# EAGLE library part M32170_74(240PIN) (library MITSUBISHI)
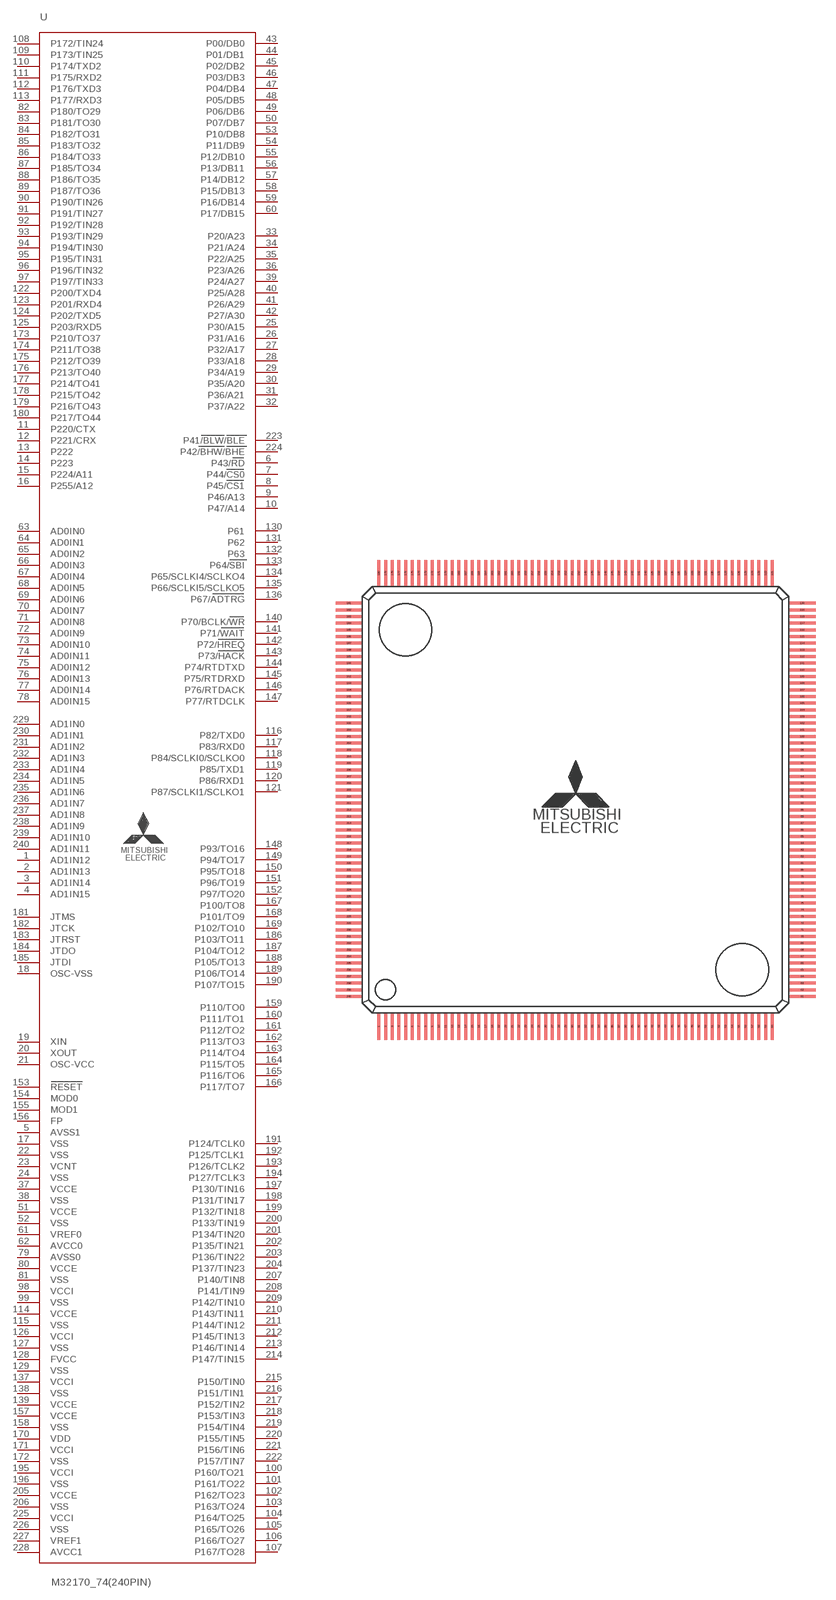
[diagram p38: symbol with the pads of 240P6Y-A; footprint 240P6Y-A]

Designator prefix -

## M32170_74(240PIN)  [240P6Y-A]
1  AD1IN12  in
2  AD1IN13  in
3  AD1IN14  in
4  AD1IN15  in
5  AVSS1  pwr
6  P43/RD
7  P44/CS0
8  P45/CS1
9  P46/A13
10  P47/A14
11  P220/CTX
12  P221/CRX  in
13  P222
14  P223
15  P224/A11
16  P255/A12
17  VSS  pwr
18  OSC-VSS  in
19  XIN  in
20  XOUT  out
21  OSC-VCC  in
22  VSS  pwr
23  VCNT  pwr
24  VSS  pwr
25  P30/A15
26  P31/A16
27  P32/A17
28  P33/A18
29  P34/A19
30  P35/A20
31  P36/A21
32  P37/A22
33  P20/A23
34  P21/A24
35  P22/A25
36  P23/A26
37  VCCE  pwr
38  VSS  pwr
39  P24/A27
40  P25/A28
41  P26/A29
42  P27/A30
43  P00/DB0
44  P01/DB1
45  P02/DB2
46  P03/DB3
47  P04/DB4
48  P05/DB5
49  P06/DB6
50  P07/DB7
51  VCCE  pwr
52  VSS  pwr
53  P10/DB8
54  P11/DB9
55  P12/DB10
56  P13/DB11
57  P14/DB12
58  P15/DB13
59  P16/DB14
60  P17/DB15
61  VREF0  pwr
62  AVCC0  pwr
63  AD0IN0  in
64  AD0IN1  in
65  AD0IN2  in
66  AD0IN3  in
67  AD0IN4  in
68  AD0IN5  in
69  AD0IN6  in
70  AD0IN7  in
71  AD0IN8  in
72  AD0IN9  in
73  AD0IN10  in
74  AD0IN11  in
75  AD0IN12  in
76  AD0IN13  in
77  AD0IN14  in
78  AD0IN15  in
79  AVSS0  pwr
80  VCCE  pwr
81  VSS  pwr
82  P180/TO29
83  P181/TO30
84  P182/TO31
85  P183/TO32
86  P184/TO33
87  P185/TO34
88  P186/TO35
89  P187/TO36
90  P190/TIN26
91  P191/TIN27
92  P192/TIN28
93  P193/TIN29
94  P194/TIN30
95  P195/TIN31
96  P196/TIN32
97  P197/TIN33
98  VCCI  pwr
99  VSS  pwr
100  P160/TO21  in
101  P161/TO22  in
102  P162/TO23  in
103  P163/TO24  in
104  P164/TO25  in
105  P165/TO26  in
106  P166/TO27  in
107  P167/TO28  in
108  P172/TIN24
109  P173/TIN25
110  P174/TXD2
111  P175/RXD2
112  P176/TXD3
113  P177/RXD3
114  VCCE  pwr
115  VSS  pwr
116  P82/TXD0  in
117  P83/RXD0  in
118  P84/SCLKI0/SCLKO0  in
119  P85/TXD1  in
120  P86/RXD1  in
121  P87/SCLKI1/SCLKO1  in
122  P200/TXD4
123  P201/RXD4
124  P202/TXD5
125  P203/RXD5
126  VCCI  pwr
127  VSS  pwr
128  FVCC  pwr
129  VSS  pwr
130  P61
131  P62
132  P63
133  P64/SBI  in
134  P65/SCLKI4/SCLKO4
135  P66/SCLKI5/SCLKO5
136  P67/ADTRG
137  VCCI  pwr
138  VSS  pwr
139  VCCE  pwr
140  P70/BCLK/WR  in
141  P71/WAIT  in
142  P72/HREQ  in
143  P73/HACK  in
144  P74/RTDTXD  in
145  P75/RTDRXD  in
146  P76/RTDACK  in
147  P77/RTDCLK  in
148  P93/TO16  in
149  P94/TO17  in
150  P95/TO18  in
151  P96/TO19  in
152  P97/TO20  in
153  RESET  in
154  MOD0  in
155  MOD1  in
156  FP  in
157  VCCE  pwr
158  VSS  pwr
159  P110/TO0  in
160  P111/TO1  in
161  P112/TO2  in
162  P113/TO3  in
163  P114/TO4  in
164  P115/TO5  in
165  P116/TO6  in
166  P117/TO7  in
167  P100/TO8  in
168  P101/TO9  in
169  P102/TO10  in
170  VDD  pwr
171  VCCI  pwr
172  VSS  pwr
173  P210/TO37
174  P211/TO38
175  P212/TO39
176  P213/TO40
177  P214/TO41
178  P215/TO42
179  P216/TO43
180  P217/TO44
181  JTMS  in
182  JTCK  in
183  JTRST  in
184  JTDO  out
185  JTDI  in
186  P103/TO11  in
187  P104/TO12  in
188  P105/TO13  in
189  P106/TO14  in
190  P107/TO15  in
191  P124/TCLK0  in
192  P125/TCLK1  in
193  P126/TCLK2  in
194  P127/TCLK3  in
195  VCCI  pwr
196  VSS  pwr
197  P130/TIN16  in
198  P131/TIN17  in
199  P132/TIN18  in
200  P133/TIN19  in
201  P134/TIN20  in
202  P135/TIN21  in
203  P136/TIN22  in
204  P137/TIN23  in
205  VCCE  pwr
206  VSS  pwr
207  P140/TIN8  in
208  P141/TIN9  in
209  P142/TIN10  in
210  P143/TIN11  in
211  P144/TIN12  in
212  P145/TIN13  in
213  P146/TIN14  in
214  P147/TIN15  in
215  P150/TIN0  in
216  P151/TIN1  in
217  P152/TIN2  in
218  P153/TIN3  in
219  P154/TIN4  in
220  P155/TIN5  in
221  P156/TIN6  in
222  P157/TIN7  in
223  P41/BLW/BLE
224  P42/BHW/BHE
225  VCCI  pwr
226  VSS  pwr
227  VREF1  pwr
228  AVCC1  pwr
229  AD1IN0  in
230  AD1IN1  in
231  AD1IN2  in
232  AD1IN3  in
233  AD1IN4  in
234  AD1IN5  in
235  AD1IN6  in
236  AD1IN7  in
237  AD1IN8  in
238  AD1IN9  in
239  AD1IN10  in
240  AD1IN11  in

## Footprint 240P6Y-A (pad centres in mm)
smd 0.225 x 2: 1 -14.75,-17; 2 -14.25,-17; 3 -13.75,-17; 4 -13.25,-17; 5 -12.75,-17; 6 -12.25,-17; 7 -11.75,-17; 8 -11.25,-17; 9 -10.75,-17; 10 -10.25,-17; 11 -9.75,-17; 12 -9.25,-17; 13 -8.75,-17; 14 -8.25,-17; 15 -7.75,-17; 16 -7.25,-17; 17 -6.75,-17; 18 -6.25,-17; 19 -5.75,-17; 20 -5.25,-17; 21 -4.75,-17; 22 -4.25,-17; 23 -3.75,-17; 24 -3.25,-17; 25 -2.75,-17; 26 -2.25,-17; 27 -1.75,-17; 28 -1.25,-17; 29 -0.75,-17; 30 -0.25,-17; 31 0.25,-17; 32 0.75,-17; 33 1.25,-17; 34 1.75,-17; 35 2.25,-17; 36 2.75,-17; 37 3.25,-17; 38 3.75,-17; 39 4.25,-17; 40 4.75,-17; 41 5.25,-17; 42 5.75,-17; 43 6.25,-17; 44 6.75,-17; 45 7.25,-17; 46 7.75,-17; 47 8.25,-17; 48 8.75,-17; 49 9.25,-17; 50 9.75,-17; 51 10.25,-17; 52 10.75,-17; 53 11.25,-17; 54 11.75,-17; 55 12.25,-17; 56 12.75,-17; 57 13.25,-17; 58 13.75,-17; 59 14.25,-17; 60 14.75,-17; 121 14.75,17; 122 14.25,17; 123 13.75,17; 124 13.25,17; 125 12.75,17; 126 12.25,17; 127 11.75,17; 128 11.25,17; 129 10.75,17; 130 10.25,17; 131 9.75,17; 132 9.25,17; 133 8.75,17; 134 8.25,17; 135 7.75,17; 136 7.25,17; 137 6.75,17; 138 6.25,17; 139 5.75,17; 140 5.25,17; 141 4.75,17; 142 4.25,17; 143 3.75,17; 144 3.25,17; 145 2.75,17; 146 2.25,17; 147 1.75,17; 148 1.25,17; 149 0.75,17; 150 0.25,17; 151 -0.25,17; 152 -0.75,17; 153 -1.25,17; 154 -1.75,17; 155 -2.25,17; 156 -2.75,17; 157 -3.25,17; 158 -3.75,17; 159 -4.25,17; 160 -4.75,17; 161 -5.25,17; 162 -5.75,17; 163 -6.25,17; 164 -6.75,17; 165 -7.25,17; 166 -7.75,17; 167 -8.25,17; 168 -8.75,17; 169 -9.25,17; 170 -9.75,17; 171 -10.25,17; 172 -10.75,17; 173 -11.25,17; 174 -11.75,17; 175 -12.25,17; 176 -12.75,17; 177 -13.25,17; 178 -13.75,17; 179 -14.25,17; 180 -14.75,17
smd 2 x 0.225: 61 17,-14.75; 62 17,-14.25; 63 17,-13.75; 64 17,-13.25; 65 17,-12.75; 66 17,-12.25; 67 17,-11.75; 68 17,-11.25; 69 17,-10.75; 70 17,-10.25; 71 17,-9.75; 72 17,-9.25; 73 17,-8.75; 74 17,-8.25; 75 17,-7.75; 76 17,-7.25; 77 17,-6.75; 78 17,-6.25; 79 17,-5.75; 80 17,-5.25; 81 17,-4.75; 82 17,-4.25; 83 17,-3.75; 84 17,-3.25; 85 17,-2.75; 86 17,-2.25; 87 17,-1.75; 88 17,-1.25; 89 17,-0.75; 90 17,-0.25; 91 17,0.25; 92 17,0.75; 93 17,1.25; 94 17,1.75; 95 17,2.25; 96 17,2.75; 97 17,3.25; 98 17,3.75; 99 17,4.25; 100 17,4.75; 101 17,5.25; 102 17,5.75; 103 17,6.25; 104 17,6.75; 105 17,7.25; 106 17,7.75; 107 17,8.25; 108 17,8.75; 109 17,9.25; 110 17,9.75; 111 17,10.25; 112 17,10.75; 113 17,11.25; 114 17,11.75; 115 17,12.25; 116 17,12.75; 117 17,13.25; 118 17,13.75; 119 17,14.25; 120 17,14.75; 181 -17,14.75; 182 -17,14.25; 183 -17,13.75; 184 -17,13.25; 185 -17,12.75; 186 -17,12.25; 187 -17,11.75; 188 -17,11.25; 189 -17,10.75; 190 -17,10.25; 191 -17,9.75; 192 -17,9.25; 193 -17,8.75; 194 -17,8.25; 195 -17,7.75; 196 -17,7.25; 197 -17,6.75; 198 -17,6.25; 199 -17,5.75; 200 -17,5.25; 201 -17,4.75; 202 -17,4.25; 203 -17,3.75; 204 -17,3.25; 205 -17,2.75; 206 -17,2.25; 207 -17,1.75; 208 -17,1.25; 209 -17,0.75; 210 -17,0.25; 211 -17,-0.25; 212 -17,-0.75; 213 -17,-1.25; 214 -17,-1.75; 215 -17,-2.25; 216 -17,-2.75; 217 -17,-3.25; 218 -17,-3.75; 219 -17,-4.25; 220 -17,-4.75; 221 -17,-5.25; 222 -17,-5.75; 223 -17,-6.25; 224 -17,-6.75; 225 -17,-7.25; 226 -17,-7.75; 227 -17,-8.25; 228 -17,-8.75; 229 -17,-9.25; 230 -17,-9.75; 231 -17,-10.25; 232 -17,-10.75; 233 -17,-11.25; 234 -17,-11.75; 235 -17,-12.25; 236 -17,-12.75; 237 -17,-13.25; 238 -17,-13.75; 239 -17,-14.25; 240 -17,-14.75